# Altium integrated library NSC Amplifier.IntLib: 1615 symbols (part 30 of 44)
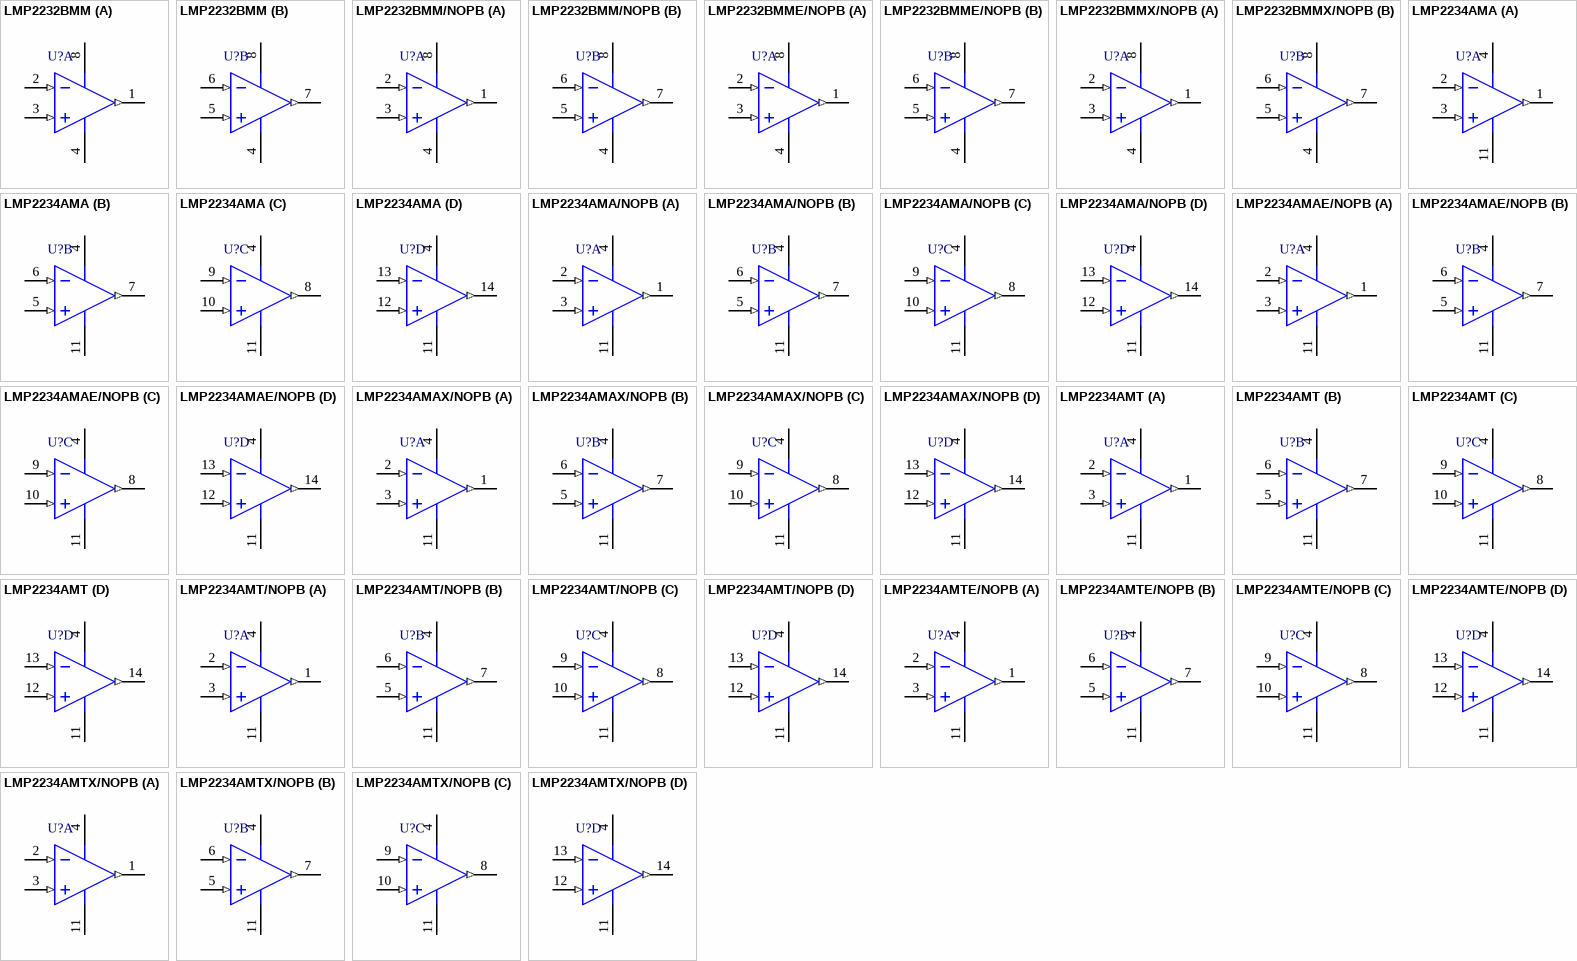
[diagram p111: symbols LMP2232BMM to LMP2234AMTX/NOPB]

## LMP2234AMAE/NOPB
designator U?
Quad Micropower, 1.6V, Precision, Operational Amplifier with CMOS Input, 14-pin Narrow SOIC, Pb-Free; PartNumber: LMP2234AMAE/NOPB; Manufacturer: National Semiconductor; PackageTopMarking: NSUZXYTTE#*LMP2234*AMA; PowerWise: N; CompType: Amplifiers; Published: 1-Mar-2010; DatasheetVersion: Dec-2008; PackageVersion: revJ, Jan-1996; PackageReference: M14A; Publisher: Altium Limited; PackageDescription: Molded Package S.O., .150in Wide, 14 Lead; Supplier 1: Digi-Key; Supplier Part Number 1: LMP2234AMAE-ND; RoHS: Y; PinCount: 14; Code_JEDEC: MS-012AB; Code_IPC: SOIC127P600-14; ComponentLink1Description: LMP2234 Datasheet; ComponentLink1URL: http://www.national.com/ds/LM/LMP2234.pdf; ComponentLink2Description: LMP2234 Web Page; ComponentLink2URL: http://www.national.com/pf/LM/LMP2234.html; ComponentLink3Description: M14A Package Page; ComponentLink3URL: http://www.national.com/packaging/folders/m14a.html
footprint M14A_N (SOIC, 14-Leads, Body 8.6x3.9mm, Pitch 1.27mm, IPC Medium Density)
footprint M14A_L (SOIC, 14-Leads, Body 8.6x3.9mm, Pitch 1.27mm, IPC High Density)
footprint M14A_M (SOIC, 14-Leads, Body 8.6x3.9mm, Pitch 1.27mm, IPC Low Density)
simulation model LMP2234 (SUBCKT)
pins on every part: 4 V+ (power), 11 V- (power)
part A pins: 1 OUTA (out), 2 INA- (in), 3 INA+ (in)
part B pins: 5 INB+ (in), 6 INB- (in), 7 OUTB (out)
part C pins: 8 OUTC (out), 9 INC- (in), 10 INC+ (in)
part D pins: 12 IND+ (in), 13 IND- (in), 14 OUTD (out)

## LMP2234AMAX/NOPB
designator U?
Quad Micropower, 1.6V, Precision, Operational Amplifier with CMOS Input, 14-pin Narrow SOIC, Pb-Free; PartNumber: LMP2234AMAX/NOPB; Manufacturer: National Semiconductor; PackageTopMarking: NSUZXYTTE#*LMP2234*AMA; PowerWise: N; CompType: Amplifiers; Published: 1-Mar-2010; DatasheetVersion: Dec-2008; PackageVersion: revJ, Jan-1996; PackageReference: M14A; Publisher: Altium Limited; PackageDescription: Molded Package S.O., .150in Wide, 14 Lead; Supplier 1: Digi-Key; Supplier Part Number 1: LMP2234AMAX-ND; RoHS: Y; PinCount: 14; Code_JEDEC: MS-012AB; Code_IPC: SOIC127P600-14; ComponentLink1Description: LMP2234 Datasheet; ComponentLink1URL: http://www.national.com/ds/LM/LMP2234.pdf; ComponentLink2Description: LMP2234 Web Page; ComponentLink2URL: http://www.national.com/pf/LM/LMP2234.html; ComponentLink3Description: M14A Package Page; ComponentLink3URL: http://www.national.com/packaging/folders/m14a.html
footprint M14A_N (SOIC, 14-Leads, Body 8.6x3.9mm, Pitch 1.27mm, IPC Medium Density)
footprint M14A_L (SOIC, 14-Leads, Body 8.6x3.9mm, Pitch 1.27mm, IPC High Density)
footprint M14A_M (SOIC, 14-Leads, Body 8.6x3.9mm, Pitch 1.27mm, IPC Low Density)
simulation model LMP2234 (SUBCKT)
pins on every part: 4 V+ (power), 11 V- (power)
part A pins: 1 OUTA (out), 2 INA- (in), 3 INA+ (in)
part B pins: 5 INB+ (in), 6 INB- (in), 7 OUTB (out)
part C pins: 8 OUTC (out), 9 INC- (in), 10 INC+ (in)
part D pins: 12 IND+ (in), 13 IND- (in), 14 OUTD (out)

## LMP2234AMT
designator U?
Quad Micropower, 1.6V, Precision, Operational Amplifier with CMOS Input, 14-pin TSSOP; PartNumber: LMP2234AMT; Manufacturer: National Semiconductor; PackageTopMarking: NSUZXYTT*LMP223*4AMT; PowerWise: N; CompType: Amplifiers; Published: 4-Dec-2008; DatasheetVersion: Dec-2008; PackageVersion: revD, Jun-2003; PackageReference: MTC14; Publisher: Altium Limited; PackageDescription: Molded TSSOP, JEDEC, 5 x 4.4 x 0.9mm Body, 14 Lead, 0.65mm Pitch; RoHS: Y; PinCount: 14; Code_JEDEC: MO-153-AB-1; ComponentLink1Description: LMP2234 Datasheet; ComponentLink1URL: http://www.national.com/ds/LM/LMP2234.pdf; ComponentLink2Description: LMP2234 Web Page; ComponentLink2URL: http://www.national.com/pf/LM/LMP2234.html; ComponentLink3Description: MTC14 Package Page; ComponentLink3URL: http://www.national.com/packaging/folders/mtc14.html
footprint MTC14_N (TSOP, 14-Leads, Body 5x4.4mm, Pitch 0.65mm, IPC Medium Density)
footprint MTC14_L (TSOP, 14-Leads, Body 5x4.4mm, Pitch 0.65mm, IPC High Density)
footprint MTC14_M (TSOP, 14-Leads, Body 5x4.4mm, Pitch 0.65mm, IPC Low Density)
pins on every part: 4 V+ (power), 11 V- (power)
part A pins: 1 OUTA (out), 2 INA- (in), 3 INA+ (in)
part B pins: 5 INB+ (in), 6 INB- (in), 7 OUTB (out)
part C pins: 8 OUTC (out), 9 INC- (in), 10 INC+ (in)
part D pins: 12 IND+ (in), 13 IND- (in), 14 OUTD (out)

## LMP2234AMT/NOPB
designator U?
Quad Micropower, 1.6V, Precision, Operational Amplifier with CMOS Input, 14-pin TSSOP, Pb-Free; PartNumber: LMP2234AMT/NOPB; Manufacturer: National Semiconductor; PackageTopMarking: NSUZXYTT*LMP223*4AMT; PowerWise: N; CompType: Amplifiers; Published: 1-Mar-2010; DatasheetVersion: Dec-2008; PackageVersion: revD, Jun-2003; PackageReference: MTC14; Publisher: Altium Limited; PackageDescription: Molded TSSOP, JEDEC, 5 x 4.4 x 0.9mm Body, 14 Lead, 0.65mm Pitch; Supplier 1: Digi-Key; Supplier Part Number 1: LMP2234AMT-ND; RoHS: Y; PinCount: 14; Code_JEDEC: MO-153-AB-1; ComponentLink1Description: LMP2234 Datasheet; ComponentLink1URL: http://www.national.com/ds/LM/LMP2234.pdf; ComponentLink2Description: LMP2234 Web Page; ComponentLink2URL: http://www.national.com/pf/LM/LMP2234.html; ComponentLink3Description: MTC14 Package Page; ComponentLink3URL: http://www.national.com/packaging/folders/mtc14.html
footprint MTC14_N (TSOP, 14-Leads, Body 5x4.4mm, Pitch 0.65mm, IPC Medium Density)
footprint MTC14_L (TSOP, 14-Leads, Body 5x4.4mm, Pitch 0.65mm, IPC High Density)
footprint MTC14_M (TSOP, 14-Leads, Body 5x4.4mm, Pitch 0.65mm, IPC Low Density)
simulation model LMP2234 (SUBCKT)
pins on every part: 4 V+ (power), 11 V- (power)
part A pins: 1 OUTA (out), 2 INA- (in), 3 INA+ (in)
part B pins: 5 INB+ (in), 6 INB- (in), 7 OUTB (out)
part C pins: 8 OUTC (out), 9 INC- (in), 10 INC+ (in)
part D pins: 12 IND+ (in), 13 IND- (in), 14 OUTD (out)

## LMP2234AMTE/NOPB
designator U?
Quad Micropower, 1.6V, Precision, Operational Amplifier with CMOS Input, 14-pin TSSOP, Pb-Free; PartNumber: LMP2234AMTE/NOPB; Manufacturer: National Semiconductor; PackageTopMarking: NSUZXYTT*LMP223*4AMT; PowerWise: N; CompType: Amplifiers; Published: 1-Mar-2010; DatasheetVersion: Dec-2008; PackageVersion: revD, Jun-2003; PackageReference: MTC14; Publisher: Altium Limited; PackageDescription: Molded TSSOP, JEDEC, 5 x 4.4 x 0.9mm Body, 14 Lead, 0.65mm Pitch; Supplier 1: Digi-Key; Supplier Part Number 1: LMP2234AMTE-ND; RoHS: Y; PinCount: 14; Code_JEDEC: MO-153-AB-1; ComponentLink1Description: LMP2234 Datasheet; ComponentLink1URL: http://www.national.com/ds/LM/LMP2234.pdf; ComponentLink2Description: LMP2234 Web Page; ComponentLink2URL: http://www.national.com/pf/LM/LMP2234.html; ComponentLink3Description: MTC14 Package Page; ComponentLink3URL: http://www.national.com/packaging/folders/mtc14.html
footprint MTC14_N (TSOP, 14-Leads, Body 5x4.4mm, Pitch 0.65mm, IPC Medium Density)
footprint MTC14_L (TSOP, 14-Leads, Body 5x4.4mm, Pitch 0.65mm, IPC High Density)
footprint MTC14_M (TSOP, 14-Leads, Body 5x4.4mm, Pitch 0.65mm, IPC Low Density)
simulation model LMP2234 (SUBCKT)
pins on every part: 4 V+ (power), 11 V- (power)
part A pins: 1 OUTA (out), 2 INA- (in), 3 INA+ (in)
part B pins: 5 INB+ (in), 6 INB- (in), 7 OUTB (out)
part C pins: 8 OUTC (out), 9 INC- (in), 10 INC+ (in)
part D pins: 12 IND+ (in), 13 IND- (in), 14 OUTD (out)

## LMP2234AMTX/NOPB
designator U?
Quad Micropower, 1.6V, Precision, Operational Amplifier with CMOS Input, 14-pin TSSOP, Pb-Free; PartNumber: LMP2234AMTX/NOPB; Manufacturer: National Semiconductor; PackageTopMarking: NSUZXYTT*LMP223*4AMT; PowerWise: N; CompType: Amplifiers; Published: 1-Mar-2010; DatasheetVersion: Dec-2008; PackageVersion: revD, Jun-2003; PackageReference: MTC14; Publisher: Altium Limited; PackageDescription: Molded TSSOP, JEDEC, 5 x 4.4 x 0.9mm Body, 14 Lead, 0.65mm Pitch; Supplier 1: Digi-Key; Supplier Part Number 1: LMP2234AMTX-ND; RoHS: Y; PinCount: 14; Code_JEDEC: MO-153-AB-1; ComponentLink1Description: LMP2234 Datasheet; ComponentLink1URL: http://www.national.com/ds/LM/LMP2234.pdf; ComponentLink2Description: LMP2234 Web Page; ComponentLink2URL: http://www.national.com/pf/LM/LMP2234.html; ComponentLink3Description: MTC14 Package Page; ComponentLink3URL: http://www.national.com/packaging/folders/mtc14.html
footprint MTC14_N (TSOP, 14-Leads, Body 5x4.4mm, Pitch 0.65mm, IPC Medium Density)
footprint MTC14_L (TSOP, 14-Leads, Body 5x4.4mm, Pitch 0.65mm, IPC High Density)
footprint MTC14_M (TSOP, 14-Leads, Body 5x4.4mm, Pitch 0.65mm, IPC Low Density)
simulation model LMP2234 (SUBCKT)
pins on every part: 4 V+ (power), 11 V- (power)
part A pins: 1 OUTA (out), 2 INA- (in), 3 INA+ (in)
part B pins: 5 INB+ (in), 6 INB- (in), 7 OUTB (out)
part C pins: 8 OUTC (out), 9 INC- (in), 10 INC+ (in)
part D pins: 12 IND+ (in), 13 IND- (in), 14 OUTD (out)

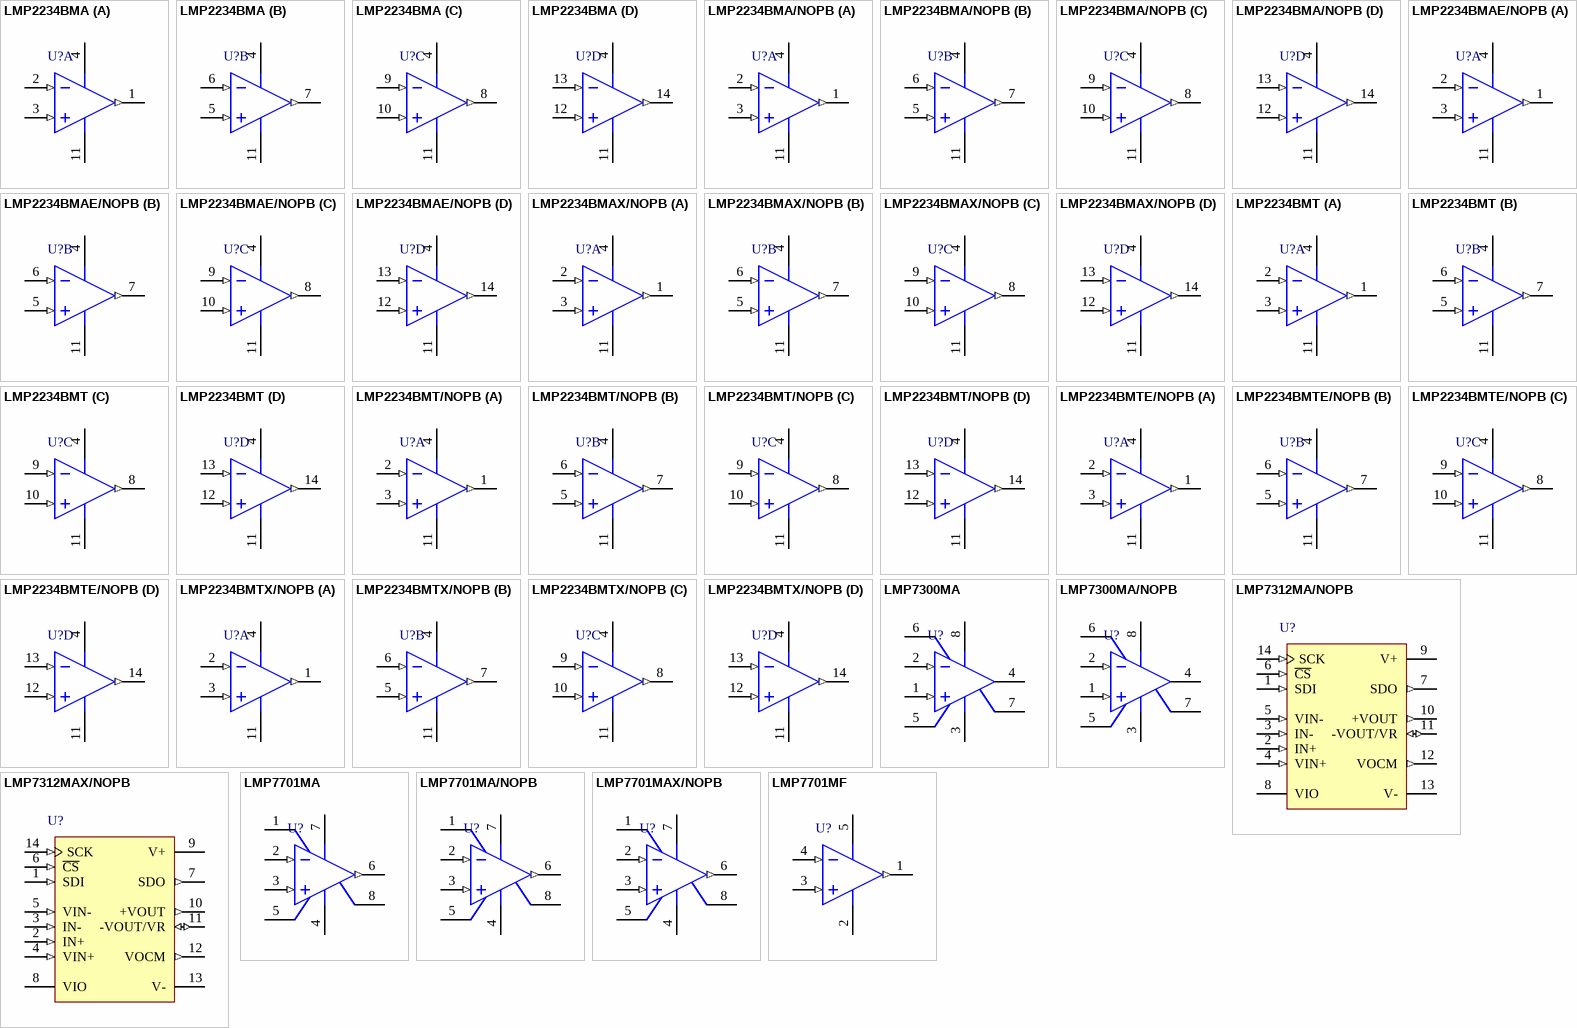
[diagram p58: symbols LMP2234BMA to LMP7701MF]

## LMP2234BMA
designator U?
Quad Micropower, 1.6V, Precision, Operational Amplifier with CMOS Input, 14-pin Narrow SOIC; PartNumber: LMP2234BMA; Manufacturer: National Semiconductor; PackageTopMarking: NSUZXYTT*LMP2234*BMA; PowerWise: N; CompType: Amplifiers; Published: 4-Dec-2008; DatasheetVersion: Dec-2008; PackageVersion: revJ, Jan-1996; PackageReference: M14A; Publisher: Altium Limited; PackageDescription: Molded Package S.O., .150in Wide, 14 Lead; RoHS: Y; PinCount: 14; Code_JEDEC: MS-012AB; Code_IPC: SOIC127P600-14; ComponentLink1Description: LMP2234 Datasheet; ComponentLink1URL: http://www.national.com/ds/LM/LMP2234.pdf; ComponentLink2Description: LMP2234 Web Page; ComponentLink2URL: http://www.national.com/pf/LM/LMP2234.html; ComponentLink3Description: M14A Package Page; ComponentLink3URL: http://www.national.com/packaging/folders/m14a.html
footprint M14A_N (SOIC, 14-Leads, Body 8.6x3.9mm, Pitch 1.27mm, IPC Medium Density)
footprint M14A_L (SOIC, 14-Leads, Body 8.6x3.9mm, Pitch 1.27mm, IPC High Density)
footprint M14A_M (SOIC, 14-Leads, Body 8.6x3.9mm, Pitch 1.27mm, IPC Low Density)
pins on every part: 4 V+ (power), 11 V- (power)
part A pins: 1 OUTA (out), 2 INA- (in), 3 INA+ (in)
part B pins: 5 INB+ (in), 6 INB- (in), 7 OUTB (out)
part C pins: 8 OUTC (out), 9 INC- (in), 10 INC+ (in)
part D pins: 12 IND+ (in), 13 IND- (in), 14 OUTD (out)

## LMP2234BMA/NOPB
designator U?
Quad Micropower, 1.6V, Precision, Operational Amplifier with CMOS Input, 14-pin Narrow SOIC, Pb-Free; PartNumber: LMP2234BMA/NOPB; Manufacturer: National Semiconductor; PackageTopMarking: NSUZXYTTE#*LMP2234*BMA; PowerWise: N; CompType: Amplifiers; Published: 1-Mar-2010; DatasheetVersion: Dec-2008; PackageVersion: revJ, Jan-1996; PackageReference: M14A; Publisher: Altium Limited; PackageDescription: Molded Package S.O., .150in Wide, 14 Lead; Supplier 1: Digi-Key; Supplier Part Number 1: LMP2234BMA-ND; RoHS: Y; PinCount: 14; Code_JEDEC: MS-012AB; Code_IPC: SOIC127P600-14; ComponentLink1Description: LMP2234 Datasheet; ComponentLink1URL: http://www.national.com/ds/LM/LMP2234.pdf; ComponentLink2Description: LMP2234 Web Page; ComponentLink2URL: http://www.national.com/pf/LM/LMP2234.html; ComponentLink3Description: M14A Package Page; ComponentLink3URL: http://www.national.com/packaging/folders/m14a.html
footprint M14A_N (SOIC, 14-Leads, Body 8.6x3.9mm, Pitch 1.27mm, IPC Medium Density)
footprint M14A_L (SOIC, 14-Leads, Body 8.6x3.9mm, Pitch 1.27mm, IPC High Density)
footprint M14A_M (SOIC, 14-Leads, Body 8.6x3.9mm, Pitch 1.27mm, IPC Low Density)
simulation model LMP2234 (SUBCKT)
pins on every part: 4 V+ (power), 11 V- (power)
part A pins: 1 OUTA (out), 2 INA- (in), 3 INA+ (in)
part B pins: 5 INB+ (in), 6 INB- (in), 7 OUTB (out)
part C pins: 8 OUTC (out), 9 INC- (in), 10 INC+ (in)
part D pins: 12 IND+ (in), 13 IND- (in), 14 OUTD (out)

## LMP2234BMAE/NOPB
designator U?
Quad Micropower, 1.6V, Precision, Operational Amplifier with CMOS Input, 14-pin Narrow SOIC, Pb-Free; PartNumber: LMP2234BMAE/NOPB; Manufacturer: National Semiconductor; PackageTopMarking: NSUZXYTTE#*LMP2234*BMA; PowerWise: N; CompType: Amplifiers; Published: 1-Mar-2010; DatasheetVersion: Dec-2008; PackageVersion: revJ, Jan-1996; PackageReference: M14A; Publisher: Altium Limited; PackageDescription: Molded Package S.O., .150in Wide, 14 Lead; Supplier 1: Digi-Key; Supplier Part Number 1: LMP2234BMAE-ND; RoHS: Y; PinCount: 14; Code_JEDEC: MS-012AB; Code_IPC: SOIC127P600-14; ComponentLink1Description: LMP2234 Datasheet; ComponentLink1URL: http://www.national.com/ds/LM/LMP2234.pdf; ComponentLink2Description: LMP2234 Web Page; ComponentLink2URL: http://www.national.com/pf/LM/LMP2234.html; ComponentLink3Description: M14A Package Page; ComponentLink3URL: http://www.national.com/packaging/folders/m14a.html
footprint M14A_N (SOIC, 14-Leads, Body 8.6x3.9mm, Pitch 1.27mm, IPC Medium Density)
footprint M14A_L (SOIC, 14-Leads, Body 8.6x3.9mm, Pitch 1.27mm, IPC High Density)
footprint M14A_M (SOIC, 14-Leads, Body 8.6x3.9mm, Pitch 1.27mm, IPC Low Density)
simulation model LMP2234 (SUBCKT)
pins on every part: 4 V+ (power), 11 V- (power)
part A pins: 1 OUTA (out), 2 INA- (in), 3 INA+ (in)
part B pins: 5 INB+ (in), 6 INB- (in), 7 OUTB (out)
part C pins: 8 OUTC (out), 9 INC- (in), 10 INC+ (in)
part D pins: 12 IND+ (in), 13 IND- (in), 14 OUTD (out)

## LMP2234BMAX/NOPB
designator U?
Quad Micropower, 1.6V, Precision, Operational Amplifier with CMOS Input, 14-pin Narrow SOIC, Pb-Free; PartNumber: LMP2234BMAX/NOPB; Manufacturer: National Semiconductor; PackageTopMarking: NSUZXYTTE#*LMP2234*BMA; PowerWise: N; CompType: Amplifiers; Published: 1-Mar-2010; DatasheetVersion: Dec-2008; PackageVersion: revJ, Jan-1996; PackageReference: M14A; Publisher: Altium Limited; PackageDescription: Molded Package S.O., .150in Wide, 14 Lead; Supplier 1: Digi-Key; Supplier Part Number 1: LMP2234BMAX-ND; RoHS: Y; PinCount: 14; Code_JEDEC: MS-012AB; Code_IPC: SOIC127P600-14; ComponentLink1Description: LMP2234 Datasheet; ComponentLink1URL: http://www.national.com/ds/LM/LMP2234.pdf; ComponentLink2Description: LMP2234 Web Page; ComponentLink2URL: http://www.national.com/pf/LM/LMP2234.html; ComponentLink3Description: M14A Package Page; ComponentLink3URL: http://www.national.com/packaging/folders/m14a.html
footprint M14A_N (SOIC, 14-Leads, Body 8.6x3.9mm, Pitch 1.27mm, IPC Medium Density)
footprint M14A_L (SOIC, 14-Leads, Body 8.6x3.9mm, Pitch 1.27mm, IPC High Density)
footprint M14A_M (SOIC, 14-Leads, Body 8.6x3.9mm, Pitch 1.27mm, IPC Low Density)
simulation model LMP2234 (SUBCKT)
pins on every part: 4 V+ (power), 11 V- (power)
part A pins: 1 OUTA (out), 2 INA- (in), 3 INA+ (in)
part B pins: 5 INB+ (in), 6 INB- (in), 7 OUTB (out)
part C pins: 8 OUTC (out), 9 INC- (in), 10 INC+ (in)
part D pins: 12 IND+ (in), 13 IND- (in), 14 OUTD (out)

## LMP2234BMT
designator U?
Quad Micropower, 1.6V, Precision, Operational Amplifier with CMOS Input, 14-pin TSSOP; PartNumber: LMP2234BMT; Manufacturer: National Semiconductor; PackageTopMarking: NSUZXYTT*LMP223*4BMT; PowerWise: N; CompType: Amplifiers; Published: 4-Dec-2008; DatasheetVersion: Dec-2008; PackageVersion: revD, Jun-2003; PackageReference: MTC14; Publisher: Altium Limited; PackageDescription: Molded TSSOP, JEDEC, 5 x 4.4 x 0.9mm Body, 14 Lead, 0.65mm Pitch; RoHS: Y; PinCount: 14; Code_JEDEC: MO-153-AB-1; ComponentLink1Description: LMP2234 Datasheet; ComponentLink1URL: http://www.national.com/ds/LM/LMP2234.pdf; ComponentLink2Description: LMP2234 Web Page; ComponentLink2URL: http://www.national.com/pf/LM/LMP2234.html; ComponentLink3Description: MTC14 Package Page; ComponentLink3URL: http://www.national.com/packaging/folders/mtc14.html
footprint MTC14_N (TSOP, 14-Leads, Body 5x4.4mm, Pitch 0.65mm, IPC Medium Density)
footprint MTC14_L (TSOP, 14-Leads, Body 5x4.4mm, Pitch 0.65mm, IPC High Density)
footprint MTC14_M (TSOP, 14-Leads, Body 5x4.4mm, Pitch 0.65mm, IPC Low Density)
pins on every part: 4 V+ (power), 11 V- (power)
part A pins: 1 OUTA (out), 2 INA- (in), 3 INA+ (in)
part B pins: 5 INB+ (in), 6 INB- (in), 7 OUTB (out)
part C pins: 8 OUTC (out), 9 INC- (in), 10 INC+ (in)
part D pins: 12 IND+ (in), 13 IND- (in), 14 OUTD (out)

## LMP2234BMT/NOPB
designator U?
Quad Micropower, 1.6V, Precision, Operational Amplifier with CMOS Input, 14-pin TSSOP, Pb-Free; PartNumber: LMP2234BMT/NOPB; Manufacturer: National Semiconductor; PackageTopMarking: NSUZXYTT*LMP223*4BMT; PowerWise: N; CompType: Amplifiers; Published: 1-Mar-2010; DatasheetVersion: Dec-2008; PackageVersion: revD, Jun-2003; PackageReference: MTC14; Publisher: Altium Limited; PackageDescription: Molded TSSOP, JEDEC, 5 x 4.4 x 0.9mm Body, 14 Lead, 0.65mm Pitch; Supplier 1: Digi-Key; Supplier Part Number 1: LMP2234BMT-ND; RoHS: Y; PinCount: 14; Code_JEDEC: MO-153-AB-1; ComponentLink1Description: LMP2234 Datasheet; ComponentLink1URL: http://www.national.com/ds/LM/LMP2234.pdf; ComponentLink2Description: LMP2234 Web Page; ComponentLink2URL: http://www.national.com/pf/LM/LMP2234.html; ComponentLink3Description: MTC14 Package Page; ComponentLink3URL: http://www.national.com/packaging/folders/mtc14.html
footprint MTC14_N (TSOP, 14-Leads, Body 5x4.4mm, Pitch 0.65mm, IPC Medium Density)
footprint MTC14_L (TSOP, 14-Leads, Body 5x4.4mm, Pitch 0.65mm, IPC High Density)
footprint MTC14_M (TSOP, 14-Leads, Body 5x4.4mm, Pitch 0.65mm, IPC Low Density)
simulation model LMP2234 (SUBCKT)
pins on every part: 4 V+ (power), 11 V- (power)
part A pins: 1 OUTA (out), 2 INA- (in), 3 INA+ (in)
part B pins: 5 INB+ (in), 6 INB- (in), 7 OUTB (out)
part C pins: 8 OUTC (out), 9 INC- (in), 10 INC+ (in)
part D pins: 12 IND+ (in), 13 IND- (in), 14 OUTD (out)

## LMP2234BMTE/NOPB
designator U?
Quad Micropower, 1.6V, Precision, Operational Amplifier with CMOS Input, 14-pin TSSOP, Pb-Free; PartNumber: LMP2234BMTE/NOPB; Manufacturer: National Semiconductor; PackageTopMarking: NSUZXYTT*LMP223*4BMT; PowerWise: N; CompType: Amplifiers; Published: 1-Mar-2010; DatasheetVersion: Dec-2008; PackageVersion: revD, Jun-2003; PackageReference: MTC14; Publisher: Altium Limited; PackageDescription: Molded TSSOP, JEDEC, 5 x 4.4 x 0.9mm Body, 14 Lead, 0.65mm Pitch; Supplier 1: Digi-Key; Supplier Part Number 1: LMP2234BMTE-ND; RoHS: Y; PinCount: 14; Code_JEDEC: MO-153-AB-1; ComponentLink1Description: LMP2234 Datasheet; ComponentLink1URL: http://www.national.com/ds/LM/LMP2234.pdf; ComponentLink2Description: LMP2234 Web Page; ComponentLink2URL: http://www.national.com/pf/LM/LMP2234.html; ComponentLink3Description: MTC14 Package Page; ComponentLink3URL: http://www.national.com/packaging/folders/mtc14.html
footprint MTC14_N (TSOP, 14-Leads, Body 5x4.4mm, Pitch 0.65mm, IPC Medium Density)
footprint MTC14_L (TSOP, 14-Leads, Body 5x4.4mm, Pitch 0.65mm, IPC High Density)
footprint MTC14_M (TSOP, 14-Leads, Body 5x4.4mm, Pitch 0.65mm, IPC Low Density)
simulation model LMP2234 (SUBCKT)
pins on every part: 4 V+ (power), 11 V- (power)
part A pins: 1 OUTA (out), 2 INA- (in), 3 INA+ (in)
part B pins: 5 INB+ (in), 6 INB- (in), 7 OUTB (out)
part C pins: 8 OUTC (out), 9 INC- (in), 10 INC+ (in)
part D pins: 12 IND+ (in), 13 IND- (in), 14 OUTD (out)

## LMP2234BMTX/NOPB
designator U?
Quad Micropower, 1.6V, Precision, Operational Amplifier with CMOS Input, 14-pin TSSOP, Pb-Free; PartNumber: LMP2234BMTX/NOPB; Manufacturer: National Semiconductor; PackageTopMarking: NSUZXYTT*LMP223*4BMT; PowerWise: N; CompType: Amplifiers; Published: 1-Mar-2010; DatasheetVersion: Dec-2008; PackageVersion: revD, Jun-2003; PackageReference: MTC14; Publisher: Altium Limited; PackageDescription: Molded TSSOP, JEDEC, 5 x 4.4 x 0.9mm Body, 14 Lead, 0.65mm Pitch; Supplier 1: Digi-Key; Supplier Part Number 1: LMP2234BMTX-ND; RoHS: Y; PinCount: 14; Code_JEDEC: MO-153-AB-1; ComponentLink1Description: LMP2234 Datasheet; ComponentLink1URL: http://www.national.com/ds/LM/LMP2234.pdf; ComponentLink2Description: LMP2234 Web Page; ComponentLink2URL: http://www.national.com/pf/LM/LMP2234.html; ComponentLink3Description: MTC14 Package Page; ComponentLink3URL: http://www.national.com/packaging/folders/mtc14.html
footprint MTC14_N (TSOP, 14-Leads, Body 5x4.4mm, Pitch 0.65mm, IPC Medium Density)
footprint MTC14_L (TSOP, 14-Leads, Body 5x4.4mm, Pitch 0.65mm, IPC High Density)
footprint MTC14_M (TSOP, 14-Leads, Body 5x4.4mm, Pitch 0.65mm, IPC Low Density)
simulation model LMP2234 (SUBCKT)
pins on every part: 4 V+ (power), 11 V- (power)
part A pins: 1 OUTA (out), 2 INA- (in), 3 INA+ (in)
part B pins: 5 INB+ (in), 6 INB- (in), 7 OUTB (out)
part C pins: 8 OUTC (out), 9 INC- (in), 10 INC+ (in)
part D pins: 12 IND+ (in), 13 IND- (in), 14 OUTD (out)

## LMP7300MA
designator U?
Micropower Precision Comparator and Precision Reference with Adjustable Hysteresis, 8-pin Narrow SOIC; PartNumber: LMP7300MA; Manufacturer: National Semiconductor; PackageTopMarking: NSZXTT*LMP73*00MA; PowerWise: Y; CompType: Amplifiers; Published: 4-Dec-2008; DatasheetVersion: Apr-2009; PackageVersion: revM, May-2009; PackageReference: M08A; Publisher: Altium Limited; PackageDescription: SOIC Narrow, 4.9 x 3.9 x 1.45mm, 8 Lead, 1.27mm Pitch; Supplier 1: Farnell; Supplier Part Number 1: 1495062; RoHS: Y; PinCount: 8; Code_JEDEC: MS-012-AA; Code_IPC: SOIC127P600-8; ComponentLink1Description: LMP7300 Datasheet; ComponentLink1URL: http://www.national.com/ds/LM/LMP7300.pdf; ComponentLink2Description: LMP7300 Web Page; ComponentLink2URL: http://www.national.com/pf/LM/LMP7300.html; ComponentLink3Description: M08A Package Page; ComponentLink3URL: http://www.national.com/packaging/folders/m08a.html
footprint M08A_N (SOIC, 8-Leads, Body 4.9x3.9mm, Pitch 1.27mm, IPC Medium Density)
footprint M08A_L (SOIC, 8-Leads, Body 4.9x3.9mm, Pitch 1.27mm, IPC High Density)
footprint M08A_M (SOIC, 8-Leads, Body 4.9x3.9mm, Pitch 1.27mm, IPC Low Density)
pins: 1 IN+ (in), 2 IN- (in), 3 GND (power), 4 OUT (oc), 5 HYSTN, 6 HYSTP, 7 REF (power), 8 V+ (power)

## LMP7300MA/NOPB
designator U?
Micropower Precision Comparator and Precision Reference with Adjustable Hysteresis, 8-pin Narrow SOIC, Pb-Free; PartNumber: LMP7300MA/NOPB; Manufacturer: National Semiconductor; PackageTopMarking: NSZXTT*LMP73*00MA; PowerWise: Y; CompType: Amplifiers; Published: 1-Mar-2010; DatasheetVersion: Apr-2009; PackageVersion: revM, May-2009; PackageReference: M08A; Publisher: Altium Limited; PackageDescription: SOIC Narrow, 4.9 x 3.9 x 1.45mm, 8 Lead, 1.27mm Pitch; Supplier 1: Digi-Key; Supplier Part Number 1: LMP7300MA-ND; Supplier 2: Farnell; Supplier Part Number 2: 1468012; RoHS: Y; PinCount: 8; Code_JEDEC: MS-012-AA; Code_IPC: SOIC127P600-8; ComponentLink1Description: LMP7300 Datasheet; ComponentLink1URL: http://www.national.com/ds/LM/LMP7300.pdf; ComponentLink2Description: LMP7300 Web Page; ComponentLink2URL: http://www.national.com/pf/LM/LMP7300.html; ComponentLink3Description: M08A Package Page; ComponentLink3URL: http://www.national.com/packaging/folders/m08a.html
footprint M08A_N (SOIC, 8-Leads, Body 4.9x3.9mm, Pitch 1.27mm, IPC Medium Density)
footprint M08A_L (SOIC, 8-Leads, Body 4.9x3.9mm, Pitch 1.27mm, IPC High Density)
footprint M08A_M (SOIC, 8-Leads, Body 4.9x3.9mm, Pitch 1.27mm, IPC Low Density)
simulation model LMP7300 (SUBCKT)
pins: 1 IN+ (in), 2 IN- (in), 3 GND (power), 4 OUT (oc), 5 HYSTN, 6 HYSTP, 7 REF (power), 8 V+ (power)

## LMP7312MA/NOPB
designator U?
Precision SPI-Programmable AFE with Differential/Single-Ended Input/Output, 14 pin SOIC NARROW; PartNumber: LMP7312MA/NOPB; Manufacturer: National Semiconductor; PackageTopMarking: NSUZXYTTE#*LMP7312*MA; PowerWise: N; CompType: Amplifiers; Published: 16-Nov-2010; DatasheetVersion: Jun-2010; PackageVersion: revJ, Jan-1996; PackageReference: M14A; Publisher: Altium Limited; PackageDescription: Molded Package S.O., .150in Wide, 14 Lead; Supplier 1: Digi-Key; Supplier Part Number 1: LMP7312MA-ND; Supplier 2: Farnell; Supplier Part Number 2: 1822980; RoHS: Y; PinCount: 14; Code_JEDEC: MS-012AB; Code_IPC: SOIC127P600-14; ComponentLink1Description: LMP7312 Datasheet; ComponentLink1URL: http://www.national.com/ds/LM/LMP7312.pdf; ComponentLink2Description: LMP7312 Web Page; ComponentLink2URL: http://www.national.com/pf/LM/LMP7312.html; ComponentLink3Description: M14A Package Page; ComponentLink3URL: http://www.national.com/packaging/folders/m14a.html
footprint M14A_N (SOIC, 14-Leads, Body 8.6x3.9mm, Pitch 1.27mm, IPC Medium Density)
footprint M14A_L (SOIC, 14-Leads, Body 8.6x3.9mm, Pitch 1.27mm, IPC High Density)
footprint M14A_M (SOIC, 14-Leads, Body 8.6x3.9mm, Pitch 1.27mm, IPC Low Density)
pins: 1 SDI (in), 2 IN+ (in), 3 IN- (in), 4 VIN+ (in), 5 VIN- (in), 6 ~{CS} (in), 7 SDO (out), 8 VIO (power), 9 V+ (power), 10 +VOUT (out), 11 -VOUT/VR (io), 12 VOCM (out), 13 V- (power), 14 SCK (in)

## LMP7312MAX/NOPB
designator U?
Precision SPI-Programmable AFE with Differential/Single-Ended Input/Output, 14 pin SOIC NARROW; PartNumber: LMP7312MAX/NOPB; Manufacturer: National Semiconductor; PackageTopMarking: NSUZXYTTE#*LMP7312*MA; PowerWise: N; CompType: Amplifiers; Published: 16-Nov-2010; DatasheetVersion: Jun-2010; PackageVersion: revJ, Jan-1996; PackageReference: M14A; Publisher: Altium Limited; PackageDescription: Molded Package S.O., .150in Wide, 14 Lead; Supplier 1: Digi-Key; Supplier Part Number 1: LMP7312MAX-ND; RoHS: Y; PinCount: 14; Code_JEDEC: MS-012AB; Code_IPC: SOIC127P600-14; ComponentLink1Description: LMP7312 Datasheet; ComponentLink1URL: http://www.national.com/ds/LM/LMP7312.pdf; ComponentLink2Description: LMP7312 Web Page; ComponentLink2URL: http://www.national.com/pf/LM/LMP7312.html; ComponentLink3Description: M14A Package Page; ComponentLink3URL: http://www.national.com/packaging/folders/m14a.html
footprint M14A_N (SOIC, 14-Leads, Body 8.6x3.9mm, Pitch 1.27mm, IPC Medium Density)
footprint M14A_L (SOIC, 14-Leads, Body 8.6x3.9mm, Pitch 1.27mm, IPC High Density)
footprint M14A_M (SOIC, 14-Leads, Body 8.6x3.9mm, Pitch 1.27mm, IPC Low Density)
pins: 1 SDI (in), 2 IN+ (in), 3 IN- (in), 4 VIN+ (in), 5 VIN- (in), 6 ~{CS} (in), 7 SDO (out), 8 VIO (power), 9 V+ (power), 10 +VOUT (out), 11 -VOUT/VR (io), 12 VOCM (out), 13 V- (power), 14 SCK (in)

## LMP7701MA
designator U?
Precision, CMOS Input, RRIO, Wide Supply Range Amplifier, 8-pin Narrow SOIC; PartNumber: LMP7701MA; Manufacturer: National Semiconductor; PackageTopMarking: NSZXTT*LMP77*01MA; PowerWise: N; CompType: Amplifiers; Published: 4-Dec-2008; LatestRevisionDate: 13-Jan-2009; LatestRevisionNote: Sim Model Added.; DatasheetVersion: Jun-2008; PackageVersion: revM, May-2009; PackageReference: M08A; Publisher: Altium Limited; PackageDescription: SOIC Narrow, 4.9 x 3.9 x 1.45mm, 8 Lead, 1.27mm Pitch; RoHS: Y; PinCount: 8; Code_JEDEC: MS-012-AA; Code_IPC: SOIC127P600-8; ComponentLink1Description: LMP7701 Datasheet; ComponentLink1URL: http://www.national.com/ds/LM/LMP7701.pdf; ComponentLink2Description: LMP7701 Web Page; ComponentLink2URL: http://www.national.com/pf/LM/LMP7701.html; ComponentLink3Description: M08A Package Page; ComponentLink3URL: http://www.national.com/packaging/folders/m08a.html
footprint M08A_N (SOIC, 8-Leads, Body 4.9x3.9mm, Pitch 1.27mm, IPC Medium Density)
footprint M08A_L (SOIC, 8-Leads, Body 4.9x3.9mm, Pitch 1.27mm, IPC High Density)
footprint M08A_M (SOIC, 8-Leads, Body 4.9x3.9mm, Pitch 1.27mm, IPC Low Density)
simulation model LMP7701 (SUBCKT)
pins: 1 NC, 2 IN- (in), 3 IN+ (in), 4 V- (power), 5 NC, 6 OUT (out), 7 V+ (power), 8 NC

## LMP7701MA/NOPB
designator U?
Precision, CMOS Input, RRIO, Wide Supply Range Amplifier, 8-pin Narrow SOIC, Pb-Free; PartNumber: LMP7701MA/NOPB; Manufacturer: National Semiconductor; PackageTopMarking: NSZXTT*LMP77*01MA; PowerWise: N; CompType: Amplifiers; Published: 1-Mar-2010; DatasheetVersion: Jun-2008; PackageVersion: revM, May-2009; PackageReference: M08A; Publisher: Altium Limited; PackageDescription: SOIC Narrow, 4.9 x 3.9 x 1.45mm, 8 Lead, 1.27mm Pitch; Supplier 1: Digi-Key; Supplier Part Number 1: LMP7701MA-ND; RoHS: Y; PinCount: 8; Code_JEDEC: MS-012-AA; Code_IPC: SOIC127P600-8; ComponentLink1Description: LMP7701 Datasheet; ComponentLink1URL: http://www.national.com/ds/LM/LMP7701.pdf; ComponentLink2Description: LMP7701 Web Page; ComponentLink2URL: http://www.national.com/pf/LM/LMP7701.html; ComponentLink3Description: M08A Package Page; ComponentLink3URL: http://www.national.com/packaging/folders/m08a.html
footprint M08A_N (SOIC, 8-Leads, Body 4.9x3.9mm, Pitch 1.27mm, IPC Medium Density)
footprint M08A_L (SOIC, 8-Leads, Body 4.9x3.9mm, Pitch 1.27mm, IPC High Density)
footprint M08A_M (SOIC, 8-Leads, Body 4.9x3.9mm, Pitch 1.27mm, IPC Low Density)
simulation model LMP7701 (SUBCKT)
pins: 1 NC, 2 IN- (in), 3 IN+ (in), 4 V- (power), 5 NC, 6 OUT (out), 7 V+ (power), 8 NC

## LMP7701MAX/NOPB
designator U?
Precision, CMOS Input, RRIO, Wide Supply Range Amplifier, 8-pin Narrow SOIC, Pb-Free; PartNumber: LMP7701MAX/NOPB; Manufacturer: National Semiconductor; PackageTopMarking: NSZXTT*LMP77*01MA; PowerWise: N; CompType: Amplifiers; Published: 1-Mar-2010; DatasheetVersion: Jun-2008; PackageVersion: revM, May-2009; PackageReference: M08A; Publisher: Altium Limited; PackageDescription: SOIC Narrow, 4.9 x 3.9 x 1.45mm, 8 Lead, 1.27mm Pitch; Supplier 1: Digi-Key; Supplier Part Number 1: LMP7701MAX-ND; RoHS: Y; PinCount: 8; Code_JEDEC: MS-012-AA; Code_IPC: SOIC127P600-8; ComponentLink1Description: LMP7701 Datasheet; ComponentLink1URL: http://www.national.com/ds/LM/LMP7701.pdf; ComponentLink2Description: LMP7701 Web Page; ComponentLink2URL: http://www.national.com/pf/LM/LMP7701.html; ComponentLink3Description: M08A Package Page; ComponentLink3URL: http://www.national.com/packaging/folders/m08a.html
footprint M08A_N (SOIC, 8-Leads, Body 4.9x3.9mm, Pitch 1.27mm, IPC Medium Density)
footprint M08A_L (SOIC, 8-Leads, Body 4.9x3.9mm, Pitch 1.27mm, IPC High Density)
footprint M08A_M (SOIC, 8-Leads, Body 4.9x3.9mm, Pitch 1.27mm, IPC Low Density)
simulation model LMP7701 (SUBCKT)
pins: 1 NC, 2 IN- (in), 3 IN+ (in), 4 V- (power), 5 NC, 6 OUT (out), 7 V+ (power), 8 NC

## LMP7701MF
designator U?
Precision, CMOS Input, RRIO, Wide Supply Range Amplifier, 5-pin SOT-23; PartNumber: LMP7701MF; Manufacturer: National Semiconductor; PackageTopMarking: AC2A*XTT; PowerWise: N; CompType: Amplifiers; Published: 4-Dec-2008; LatestRevisionDate: 13-Jan-2009; LatestRevisionNote: Sim Model Added.; DatasheetVersion: Jun-2008; PackageVersion: revD, Aug-2008; PackageReference: MF05A; Publisher: Altium Limited; PackageDescription: Molded SOT-23, .115 x .063 x .040 in Body, 5 Lead, .0375 in Pitch; Supplier 1: Farnell; Supplier Part Number 1: 1312606; RoHS: N; PinCount: 5; ComponentLink1Description: LMP7701 Datasheet; ComponentLink1URL: http://www.national.com/ds/LM/LMP7701.pdf; ComponentLink2Description: LMP7701 Web Page; ComponentLink2URL: http://www.national.com/pf/LM/LMP7701.html; ComponentLink3Description: MF05A Package Page; ComponentLink3URL: http://www.national.com/packaging/folders/mf05a.html
footprint MF05A_N (SOT23, 5-Leads, Body 2.9x1.6mm, Pitch 0.95mm, Lead Span 2.8mm, IPC Medium Density)
footprint MF05A_L (SOT23, 5-Leads, Body 2.9x1.6mm, Pitch 0.95mm, Lead Span 2.8mm, IPC High Density)
footprint MF05A_M (SOT23, 5-Leads, Body 2.9x1.6mm, Pitch 0.95mm, Lead Span 2.8mm, IPC Low Density)
simulation model LMP7701 (SUBCKT)
pins: 1 OUT (out), 2 V- (power), 3 IN+ (in), 4 IN- (in), 5 V+ (power)

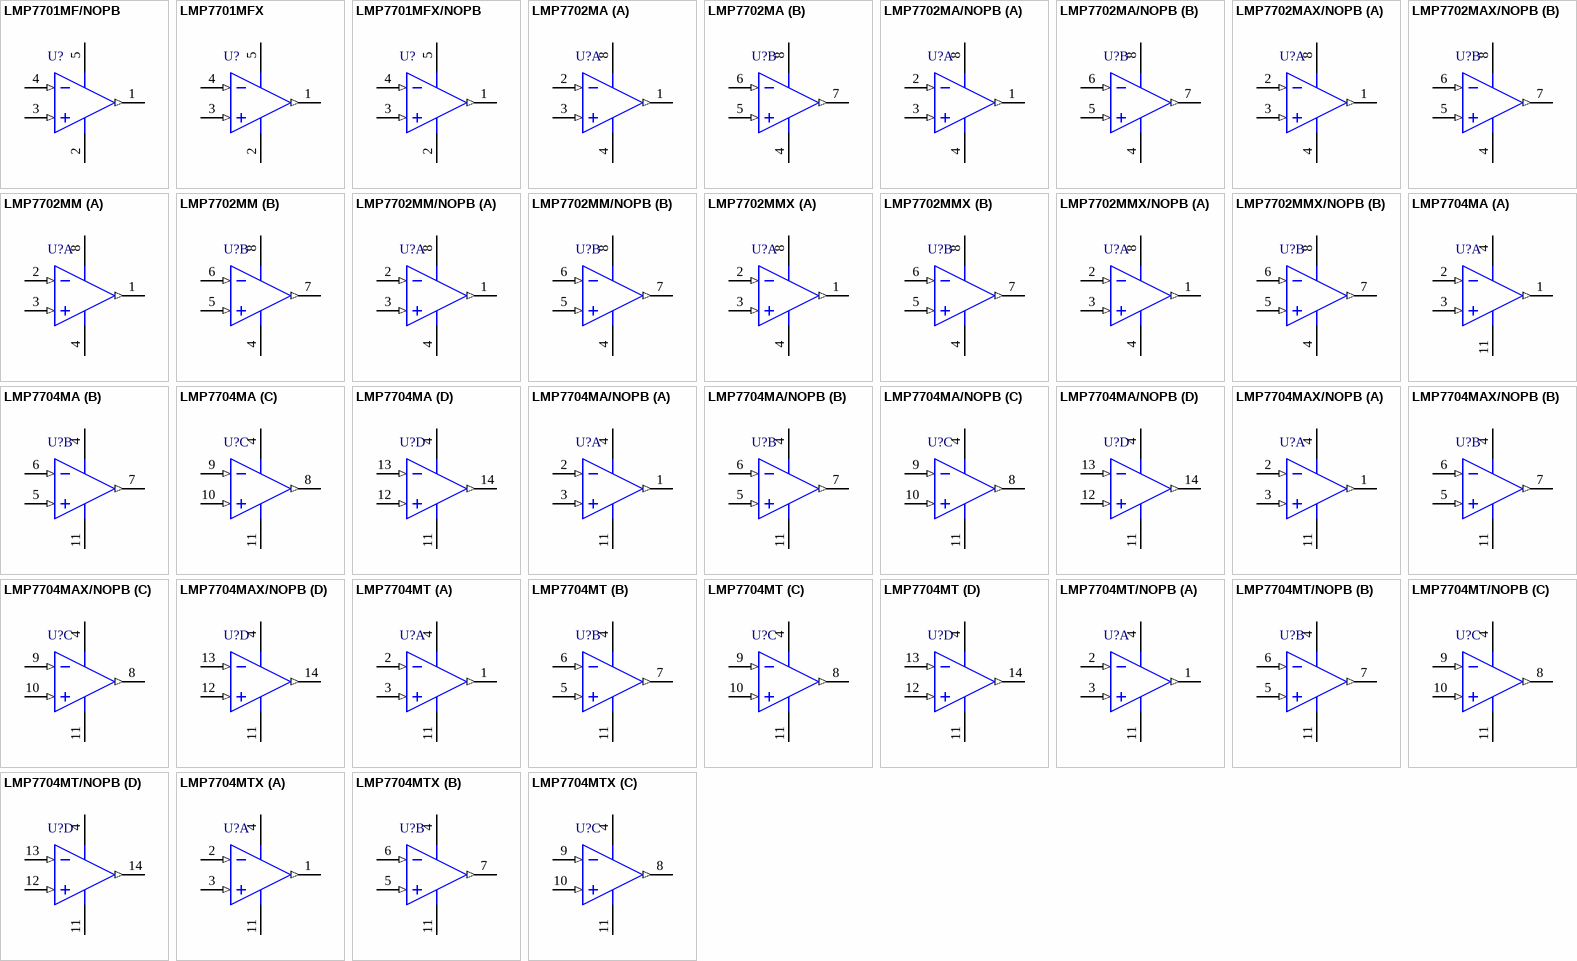
[diagram p59: symbols LMP7701MF/NOPB to LMP7704MTX]

## LMP7701MF/NOPB
designator U?
Precision, CMOS Input, RRIO, Wide Supply Range Amplifier, 5-pin SOT-23, Pb-Free; PartNumber: LMP7701MF/NOPB; Manufacturer: National Semiconductor; PackageTopMarking: AC2A*XTT; PowerWise: N; CompType: Amplifiers; Published: 1-Mar-2010; DatasheetVersion: Jun-2008; PackageVersion: revD, Aug-2008; PackageReference: MF05A; Publisher: Altium Limited; PackageDescription: Molded SOT-23, .115 x .063 x .040 in Body, 5 Lead, .0375 in Pitch; Supplier 1: Digi-Key; Supplier Part Number 1: LMP7701MFTR-ND; Supplier 2: Digi-Key; Supplier Part Number 2: LMP7701MFCT-ND; Supplier 3: Digi-Key; Supplier Part Number 3: LMP7701MFDKR-ND; Supplier 4: Farnell; Supplier Part Number 4: 1559766; RoHS: Y; PinCount: 5; ComponentLink1Description: LMP7701 Datasheet; ComponentLink1URL: http://www.national.com/ds/LM/LMP7701.pdf; ComponentLink2Description: LMP7701 Web Page; ComponentLink2URL: http://www.national.com/pf/LM/LMP7701.html; ComponentLink3Description: MF05A Package Page; ComponentLink3URL: http://www.national.com/packaging/folders/mf05a.html
footprint MF05A_N (SOT23, 5-Leads, Body 2.9x1.6mm, Pitch 0.95mm, Lead Span 2.8mm, IPC Medium Density)
footprint MF05A_L (SOT23, 5-Leads, Body 2.9x1.6mm, Pitch 0.95mm, Lead Span 2.8mm, IPC High Density)
footprint MF05A_M (SOT23, 5-Leads, Body 2.9x1.6mm, Pitch 0.95mm, Lead Span 2.8mm, IPC Low Density)
simulation model LMP7701 (SUBCKT)
pins: 1 OUT (out), 2 V- (power), 3 IN+ (in), 4 IN- (in), 5 V+ (power)

## LMP7701MFX
designator U?
Precision, CMOS Input, RRIO, Wide Supply Range Amplifier, 5-pin SOT-23; PartNumber: LMP7701MFX; Manufacturer: National Semiconductor; PackageTopMarking: AC2A*XTT; PowerWise: N; CompType: Amplifiers; Published: 1-Mar-2010; DatasheetVersion: Jun-2008; PackageVersion: revD, Aug-2008; PackageReference: MF05A; Publisher: Altium Limited; PackageDescription: Molded SOT-23, .115 x .063 x .040 in Body, 5 Lead, .0375 in Pitch; RoHS: N; PinCount: 5; ComponentLink1Description: LMP7701 Datasheet; ComponentLink1URL: http://www.national.com/ds/LM/LMP7701.pdf; ComponentLink2Description: LMP7701 Web Page; ComponentLink2URL: http://www.national.com/pf/LM/LMP7701.html; ComponentLink3Description: MF05A Package Page; ComponentLink3URL: http://www.national.com/packaging/folders/mf05a.html
footprint MF05A_N (SOT23, 5-Leads, Body 2.9x1.6mm, Pitch 0.95mm, Lead Span 2.8mm, IPC Medium Density)
footprint MF05A_L (SOT23, 5-Leads, Body 2.9x1.6mm, Pitch 0.95mm, Lead Span 2.8mm, IPC High Density)
footprint MF05A_M (SOT23, 5-Leads, Body 2.9x1.6mm, Pitch 0.95mm, Lead Span 2.8mm, IPC Low Density)
simulation model LMP7701 (SUBCKT)
pins: 1 OUT (out), 2 V- (power), 3 IN+ (in), 4 IN- (in), 5 V+ (power)

## LMP7701MFX/NOPB
designator U?
Precision, CMOS Input, RRIO, Wide Supply Range Amplifier, 5-pin SOT-23, Pb-Free; PartNumber: LMP7701MFX/NOPB; Manufacturer: National Semiconductor; PackageTopMarking: AC2A*XTT; PowerWise: N; CompType: Amplifiers; Published: 1-Mar-2010; DatasheetVersion: Jun-2008; PackageVersion: revD, Aug-2008; PackageReference: MF05A; Publisher: Altium Limited; PackageDescription: Molded SOT-23, .115 x .063 x .040 in Body, 5 Lead, .0375 in Pitch; Supplier 1: Digi-Key; Supplier Part Number 1: LMP7701MFX-ND; RoHS: Y; PinCount: 5; ComponentLink1Description: LMP7701 Datasheet; ComponentLink1URL: http://www.national.com/ds/LM/LMP7701.pdf; ComponentLink2Description: LMP7701 Web Page; ComponentLink2URL: http://www.national.com/pf/LM/LMP7701.html; ComponentLink3Description: MF05A Package Page; ComponentLink3URL: http://www.national.com/packaging/folders/mf05a.html
footprint MF05A_N (SOT23, 5-Leads, Body 2.9x1.6mm, Pitch 0.95mm, Lead Span 2.8mm, IPC Medium Density)
footprint MF05A_L (SOT23, 5-Leads, Body 2.9x1.6mm, Pitch 0.95mm, Lead Span 2.8mm, IPC High Density)
footprint MF05A_M (SOT23, 5-Leads, Body 2.9x1.6mm, Pitch 0.95mm, Lead Span 2.8mm, IPC Low Density)
simulation model LMP7701 (SUBCKT)
pins: 1 OUT (out), 2 V- (power), 3 IN+ (in), 4 IN- (in), 5 V+ (power)

## LMP7702MA
designator U?
Precision, CMOS Input, RRIO, Wide Supply Range Amplifiers, 8-pin Narrow SOIC; PartNumber: LMP7702MA; Manufacturer: National Semiconductor; PackageTopMarking: NSZXTT*LMP77*02MA; PowerWise: N; Published: 4-Dec-2008; LatestRevisionDate: 13-Jan-2009; LatestRevisionNote: Sim Model Added.; DatasheetVersion: Jun-2008; PackageVersion: revM, May-2009; PackageReference: M08A; Publisher: Altium Limited; PackageDescription: SOIC Narrow, 4.9 x 3.9 x 1.45mm, 8 Lead, 1.27mm Pitch; RoHS: Y; PinCount: 8; CompType: Amplifiers; Code_JEDEC: MS-012-AA; Code_IPC: SOIC127P600-8; ComponentLink1Description: LMP7702 Datasheet; ComponentLink1URL: http://www.national.com/ds/LM/LMP7702.pdf; ComponentLink2Description: LMP7702 Web Page; ComponentLink2URL: http://www.national.com/pf/LM/LMP7702.html; ComponentLink3Description: M08A Package Page; ComponentLink3URL: http://www.national.com/packaging/folders/m08a.html
footprint M08A_N (SOIC, 8-Leads, Body 4.9x3.9mm, Pitch 1.27mm, IPC Medium Density)
footprint M08A_L (SOIC, 8-Leads, Body 4.9x3.9mm, Pitch 1.27mm, IPC High Density)
footprint M08A_M (SOIC, 8-Leads, Body 4.9x3.9mm, Pitch 1.27mm, IPC Low Density)
simulation model LMP7702 (SUBCKT)
pins on every part: 4 V- (power), 8 V+ (power)
part A pins: 1 OUTA (out), 2 INA- (in), 3 INA+ (in)
part B pins: 5 INB+ (in), 6 INB- (in), 7 OUTB (out)

## LMP7702MA/NOPB
designator U?
Precision, CMOS Input, RRIO, Wide Supply Range Amplifiers, 8-pin Narrow SOIC, Pb-Free; PartNumber: LMP7702MA/NOPB; Manufacturer: National Semiconductor; PackageTopMarking: NSZXTT*LMP77*02MA; PowerWise: N; Published: 1-Mar-2010; DatasheetVersion: Jun-2008; PackageVersion: revM, May-2009; PackageReference: M08A; Publisher: Altium Limited; PackageDescription: SOIC Narrow, 4.9 x 3.9 x 1.45mm, 8 Lead, 1.27mm Pitch; Supplier 1: Digi-Key; Supplier Part Number 1: LMP7702MA-ND; Supplier 2: Farnell; Supplier Part Number 2: 1651867; RoHS: Y; PinCount: 8; CompType: Amplifiers; Code_JEDEC: MS-012-AA; Code_IPC: SOIC127P600-8; ComponentLink1Description: LMP7702 Datasheet; ComponentLink1URL: http://www.national.com/ds/LM/LMP7702.pdf; ComponentLink2Description: LMP7702 Web Page; ComponentLink2URL: http://www.national.com/pf/LM/LMP7702.html; ComponentLink3Description: M08A Package Page; ComponentLink3URL: http://www.national.com/packaging/folders/m08a.html
footprint M08A_N (SOIC, 8-Leads, Body 4.9x3.9mm, Pitch 1.27mm, IPC Medium Density)
footprint M08A_L (SOIC, 8-Leads, Body 4.9x3.9mm, Pitch 1.27mm, IPC High Density)
footprint M08A_M (SOIC, 8-Leads, Body 4.9x3.9mm, Pitch 1.27mm, IPC Low Density)
simulation model LMP7702 (SUBCKT)
pins on every part: 4 V- (power), 8 V+ (power)
part A pins: 1 OUTA (out), 2 INA- (in), 3 INA+ (in)
part B pins: 5 INB+ (in), 6 INB- (in), 7 OUTB (out)

## LMP7702MAX/NOPB
designator U?
Precision, CMOS Input, RRIO, Wide Supply Range Amplifiers, 8-pin Narrow SOIC, Pb-Free; PartNumber: LMP7702MAX/NOPB; Manufacturer: National Semiconductor; PackageTopMarking: NSZXTT*LMP77*02MA; PowerWise: N; Published: 1-Mar-2010; DatasheetVersion: Jun-2008; PackageVersion: revM, May-2009; PackageReference: M08A; Publisher: Altium Limited; PackageDescription: SOIC Narrow, 4.9 x 3.9 x 1.45mm, 8 Lead, 1.27mm Pitch; Supplier 1: Digi-Key; Supplier Part Number 1: LMP7702MAX-ND; RoHS: Y; PinCount: 8; CompType: Amplifiers; Code_JEDEC: MS-012-AA; Code_IPC: SOIC127P600-8; ComponentLink1Description: LMP7702 Datasheet; ComponentLink1URL: http://www.national.com/ds/LM/LMP7702.pdf; ComponentLink2Description: LMP7702 Web Page; ComponentLink2URL: http://www.national.com/pf/LM/LMP7702.html; ComponentLink3Description: M08A Package Page; ComponentLink3URL: http://www.national.com/packaging/folders/m08a.html
footprint M08A_N (SOIC, 8-Leads, Body 4.9x3.9mm, Pitch 1.27mm, IPC Medium Density)
footprint M08A_L (SOIC, 8-Leads, Body 4.9x3.9mm, Pitch 1.27mm, IPC High Density)
footprint M08A_M (SOIC, 8-Leads, Body 4.9x3.9mm, Pitch 1.27mm, IPC Low Density)
simulation model LMP7702 (SUBCKT)
pins on every part: 4 V- (power), 8 V+ (power)
part A pins: 1 OUTA (out), 2 INA- (in), 3 INA+ (in)
part B pins: 5 INB+ (in), 6 INB- (in), 7 OUTB (out)

## LMP7702MM
designator U?
Precision, CMOS Input, RRIO, Wide Supply Range Amplifiers, 8-pin Mini SOIC; PartNumber: LMP7702MM; Manufacturer: National Semiconductor; PackageTopMarking: ZXTT*AA3A; PowerWise: N; Published: 4-Dec-2008; LatestRevisionDate: 13-Jan-2009; LatestRevisionNote: Sim Model Added.; DatasheetVersion: Jun-2008; PackageVersion: revF, Apr-2008; PackageReference: MUA08A; Publisher: Altium Limited; PackageDescription: MINI SOIC, .118 x .118 x .034in, 8 Lead, .0256in Pitch; Supplier 1: Farnell; Supplier Part Number 1: 1312607; RoHS: N; PinCount: 8; CompType: Amplifiers; Code_JEDEC: MO-187-AA; ComponentLink1Description: LMP7702 Datasheet; ComponentLink1URL: http://www.national.com/ds/LM/LMP7702.pdf; ComponentLink2Description: LMP7702 Web Page; ComponentLink2URL: http://www.national.com/pf/LM/LMP7702.html; ComponentLink3Description: MUA08A Package Page; ComponentLink3URL: http://www.national.com/packaging/folders/mua08a.html
footprint MUA08A_N (TSOP, 8-Leads, Body 3x3mm, Pitch 0.65mm, IPC Medium Density)
footprint MUA08A_L (TSOP, 8-Leads, Body 3x3mm, Pitch 0.65mm, IPC High Density)
footprint MUA08A_M (TSOP, 8-Leads, Body 3x3mm, Pitch 0.65mm, IPC Low Density)
simulation model LMP7702 (SUBCKT)
pins on every part: 4 V- (power), 8 V+ (power)
part A pins: 1 OUTA (out), 2 INA- (in), 3 INA+ (in)
part B pins: 5 INB+ (in), 6 INB- (in), 7 OUTB (out)

## LMP7702MM/NOPB
designator U?
Precision, CMOS Input, RRIO, Wide Supply Range Amplifiers, 8-pin Mini SOIC, Pb-Free; PartNumber: LMP7702MM/NOPB; Manufacturer: National Semiconductor; PackageTopMarking: ZXTT*AA3A; PowerWise: N; Published: 1-Mar-2010; DatasheetVersion: Jun-2008; PackageVersion: revF, Apr-2008; PackageReference: MUA08A; Publisher: Altium Limited; PackageDescription: MINI SOIC, .118 x .118 x .034in, 8 Lead, .0256in Pitch; Supplier 1: Digi-Key; Supplier Part Number 1: LMP7702MMTR-ND; Supplier 2: Digi-Key; Supplier Part Number 2: LMP7702MMCT-ND; Supplier 3: Digi-Key; Supplier Part Number 3: LMP7702MMDKR-ND; Supplier 4: Farnell; Supplier Part Number 4: 1559864; RoHS: Y; PinCount: 8; CompType: Amplifiers; Code_JEDEC: MO-187-AA; ComponentLink1Description: LMP7702 Datasheet; ComponentLink1URL: http://www.national.com/ds/LM/LMP7702.pdf; ComponentLink2Description: LMP7702 Web Page; ComponentLink2URL: http://www.national.com/pf/LM/LMP7702.html; ComponentLink3Description: MUA08A Package Page; ComponentLink3URL: http://www.national.com/packaging/folders/mua08a.html
footprint MUA08A_N (TSOP, 8-Leads, Body 3x3mm, Pitch 0.65mm, IPC Medium Density)
footprint MUA08A_L (TSOP, 8-Leads, Body 3x3mm, Pitch 0.65mm, IPC High Density)
footprint MUA08A_M (TSOP, 8-Leads, Body 3x3mm, Pitch 0.65mm, IPC Low Density)
simulation model LMP7702 (SUBCKT)
pins on every part: 4 V- (power), 8 V+ (power)
part A pins: 1 OUTA (out), 2 INA- (in), 3 INA+ (in)
part B pins: 5 INB+ (in), 6 INB- (in), 7 OUTB (out)

## LMP7702MMX
designator U?
Precision, CMOS Input, RRIO, Wide Supply Range Amplifiers, 8-pin Mini SOIC; PartNumber: LMP7702MMX; Manufacturer: National Semiconductor; PackageTopMarking: ZXTT*AA3A; PowerWise: N; Published: 1-Mar-2010; DatasheetVersion: Jun-2008; PackageVersion: revF, Apr-2008; PackageReference: MUA08A; Publisher: Altium Limited; PackageDescription: MINI SOIC, .118 x .118 x .034in, 8 Lead, .0256in Pitch; RoHS: N; PinCount: 8; CompType: Amplifiers; Code_JEDEC: MO-187-AA; ComponentLink1Description: LMP7702 Datasheet; ComponentLink1URL: http://www.national.com/ds/LM/LMP7702.pdf; ComponentLink2Description: LMP7702 Web Page; ComponentLink2URL: http://www.national.com/pf/LM/LMP7702.html; ComponentLink3Description: MUA08A Package Page; ComponentLink3URL: http://www.national.com/packaging/folders/mua08a.html
footprint MUA08A_N (TSOP, 8-Leads, Body 3x3mm, Pitch 0.65mm, IPC Medium Density)
footprint MUA08A_L (TSOP, 8-Leads, Body 3x3mm, Pitch 0.65mm, IPC High Density)
footprint MUA08A_M (TSOP, 8-Leads, Body 3x3mm, Pitch 0.65mm, IPC Low Density)
simulation model LMP7702 (SUBCKT)
pins on every part: 4 V- (power), 8 V+ (power)
part A pins: 1 OUTA (out), 2 INA- (in), 3 INA+ (in)
part B pins: 5 INB+ (in), 6 INB- (in), 7 OUTB (out)

## LMP7702MMX/NOPB
designator U?
Precision, CMOS Input, RRIO, Wide Supply Range Amplifiers, 8-pin Mini SOIC, Pb-Free; PartNumber: LMP7702MMX/NOPB; Manufacturer: National Semiconductor; PackageTopMarking: ZXTT*AA3A; PowerWise: N; Published: 1-Mar-2010; DatasheetVersion: Jun-2008; PackageVersion: revF, Apr-2008; PackageReference: MUA08A; Publisher: Altium Limited; PackageDescription: MINI SOIC, .118 x .118 x .034in, 8 Lead, .0256in Pitch; Supplier 1: Digi-Key; Supplier Part Number 1: LMP7702MMX-ND; RoHS: Y; PinCount: 8; CompType: Amplifiers; Code_JEDEC: MO-187-AA; ComponentLink1Description: LMP7702 Datasheet; ComponentLink1URL: http://www.national.com/ds/LM/LMP7702.pdf; ComponentLink2Description: LMP7702 Web Page; ComponentLink2URL: http://www.national.com/pf/LM/LMP7702.html; ComponentLink3Description: MUA08A Package Page; ComponentLink3URL: http://www.national.com/packaging/folders/mua08a.html
footprint MUA08A_N (TSOP, 8-Leads, Body 3x3mm, Pitch 0.65mm, IPC Medium Density)
footprint MUA08A_L (TSOP, 8-Leads, Body 3x3mm, Pitch 0.65mm, IPC High Density)
footprint MUA08A_M (TSOP, 8-Leads, Body 3x3mm, Pitch 0.65mm, IPC Low Density)
simulation model LMP7702 (SUBCKT)
pins on every part: 4 V- (power), 8 V+ (power)
part A pins: 1 OUTA (out), 2 INA- (in), 3 INA+ (in)
part B pins: 5 INB+ (in), 6 INB- (in), 7 OUTB (out)

## LMP7704MA
designator U?
Precision, CMOS Input, RRIO, Wide Supply Range Amplifiers, 14-pin Narrow SOIC; PartNumber: LMP7704MA; Manufacturer: National Semiconductor; PackageTopMarking: NSUZXYTT*LMP7704*MA; PowerWise: N; Published: 4-Dec-2008; LatestRevisionDate: 13-Jan-2009; LatestRevisionNote: Sim Model Added.; DatasheetVersion: Jun-2008; PackageVersion: revJ, Jan-1996; PackageReference: M14A; Publisher: Altium Limited; PackageDescription: Molded Package S.O., .150in Wide, 14 Lead; Supplier 1: Farnell; Supplier Part Number 1: 1663020; RoHS: Y; PinCount: 14; CompType: Amplifiers; Code_JEDEC: MS-012AB; Code_IPC: SOIC127P600-14; ComponentLink1Description: LMP7704 Datasheet; ComponentLink1URL: http://www.national.com/ds/LM/LMP7704.pdf; ComponentLink2Description: LMP7704 Web Page; ComponentLink2URL: http://www.national.com/pf/LM/LMP7704.html; ComponentLink3Description: M14A Package Page; ComponentLink3URL: http://www.national.com/packaging/folders/m14a.html
footprint M14A_N (SOIC, 14-Leads, Body 8.6x3.9mm, Pitch 1.27mm, IPC Medium Density)
footprint M14A_L (SOIC, 14-Leads, Body 8.6x3.9mm, Pitch 1.27mm, IPC High Density)
footprint M14A_M (SOIC, 14-Leads, Body 8.6x3.9mm, Pitch 1.27mm, IPC Low Density)
simulation model LMP7704 (SUBCKT)
pins on every part: 4 V+ (power), 11 V- (power)
part A pins: 1 OUTA (out), 2 INA- (in), 3 INA+ (in)
part B pins: 5 INB+ (in), 6 INB- (in), 7 OUTB (out)
part C pins: 8 OUTC (out), 9 INC- (in), 10 INC+ (in)
part D pins: 12 IND+ (in), 13 IND- (in), 14 OUTD (out)

## LMP7704MA/NOPB
designator U?
Precision, CMOS Input, RRIO, Wide Supply Range Amplifiers, 14-pin Narrow SOIC, Pb-Free; PartNumber: LMP7704MA/NOPB; Manufacturer: National Semiconductor; PackageTopMarking: NSUZXYTTE#*LMP7704*MA; PowerWise: N; Published: 1-Mar-2010; DatasheetVersion: Jun-2008; PackageVersion: revJ, Jan-1996; PackageReference: M14A; Publisher: Altium Limited; PackageDescription: Molded Package S.O., .150in Wide, 14 Lead; Supplier 1: Digi-Key; Supplier Part Number 1: LMP7704MA-ND; Supplier 2: Farnell; Supplier Part Number 2: 1632102; RoHS: Y; PinCount: 14; CompType: Amplifiers; Code_JEDEC: MS-012AB; Code_IPC: SOIC127P600-14; ComponentLink1Description: LMP7704 Datasheet; ComponentLink1URL: http://www.national.com/ds/LM/LMP7704.pdf; ComponentLink2Description: LMP7704 Web Page; ComponentLink2URL: http://www.national.com/pf/LM/LMP7704.html; ComponentLink3Description: M14A Package Page; ComponentLink3URL: http://www.national.com/packaging/folders/m14a.html
footprint M14A_N (SOIC, 14-Leads, Body 8.6x3.9mm, Pitch 1.27mm, IPC Medium Density)
footprint M14A_L (SOIC, 14-Leads, Body 8.6x3.9mm, Pitch 1.27mm, IPC High Density)
footprint M14A_M (SOIC, 14-Leads, Body 8.6x3.9mm, Pitch 1.27mm, IPC Low Density)
simulation model LMP7704 (SUBCKT)
pins on every part: 4 V+ (power), 11 V- (power)
part A pins: 1 OUTA (out), 2 INA- (in), 3 INA+ (in)
part B pins: 5 INB+ (in), 6 INB- (in), 7 OUTB (out)
part C pins: 8 OUTC (out), 9 INC- (in), 10 INC+ (in)
part D pins: 12 IND+ (in), 13 IND- (in), 14 OUTD (out)

## LMP7704MAX/NOPB
designator U?
Precision, CMOS Input, RRIO, Wide Supply Range Amplifiers, 14-pin Narrow SOIC, Pb-Free; PartNumber: LMP7704MAX/NOPB; Manufacturer: National Semiconductor; PackageTopMarking: NSUZXYTTE#*LMP7704*MA; PowerWise: N; Published: 1-Mar-2010; DatasheetVersion: Jun-2008; PackageVersion: revJ, Jan-1996; PackageReference: M14A; Publisher: Altium Limited; PackageDescription: Molded Package S.O., .150in Wide, 14 Lead; Supplier 1: Digi-Key; Supplier Part Number 1: LMP7704MAX-ND; RoHS: Y; PinCount: 14; CompType: Amplifiers; Code_JEDEC: MS-012AB; Code_IPC: SOIC127P600-14; ComponentLink1Description: LMP7704 Datasheet; ComponentLink1URL: http://www.national.com/ds/LM/LMP7704.pdf; ComponentLink2Description: LMP7704 Web Page; ComponentLink2URL: http://www.national.com/pf/LM/LMP7704.html; ComponentLink3Description: M14A Package Page; ComponentLink3URL: http://www.national.com/packaging/folders/m14a.html
footprint M14A_N (SOIC, 14-Leads, Body 8.6x3.9mm, Pitch 1.27mm, IPC Medium Density)
footprint M14A_L (SOIC, 14-Leads, Body 8.6x3.9mm, Pitch 1.27mm, IPC High Density)
footprint M14A_M (SOIC, 14-Leads, Body 8.6x3.9mm, Pitch 1.27mm, IPC Low Density)
simulation model LMP7704 (SUBCKT)
pins on every part: 4 V+ (power), 11 V- (power)
part A pins: 1 OUTA (out), 2 INA- (in), 3 INA+ (in)
part B pins: 5 INB+ (in), 6 INB- (in), 7 OUTB (out)
part C pins: 8 OUTC (out), 9 INC- (in), 10 INC+ (in)
part D pins: 12 IND+ (in), 13 IND- (in), 14 OUTD (out)